# Altium footprint library 744314.PcbLib: 1 footprints
Each footprint in its own frame and in the unit in brackets; x right, y up, seen from the top. Pads: shape width x height; smd on the part's side, far side on the other; paste and mask are expansions set on the pad; w line width, h text height; cw(c..) or ccw(c..) is an arc to the next point about the centre after c.
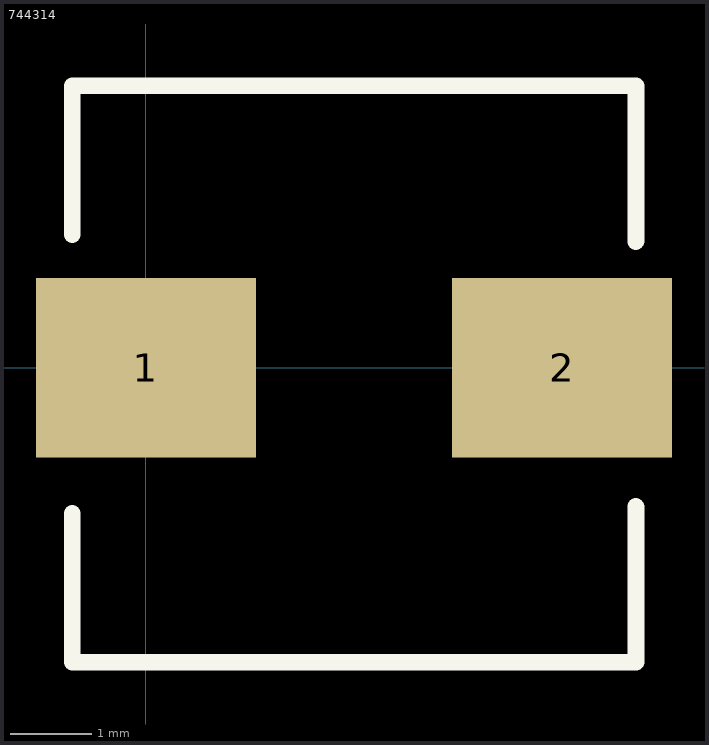
[diagram p0: the footprint, top view; thin cyan lines are the x and y axes]

## 744314 [mm]
height 0.813
pads (2):
  rect 2.7x2.2 smd: 1(0,0) 2(5.1,0)
TopOverlay:
  lines w0.203: -0.906,-1.78 -0.906,-3.606 6.007,-3.606 6.007,-1.699 6.004,-1.697 ; -0.906,1.631 -0.906,3.457 6.007,3.457 6.007,1.55 6.004,1.548
3D body: height 4.72, standoff -0.09, extent -3.02,-5.246 7.98,5.266